# Altium footprint library Capacitor gigante.PcbLib: 1 footprints
Each footprint in its own frame and in the unit in brackets; x right, y up, seen from the top. Pads: shape width x height; smd on the part's side, far side on the other; paste and mask are expansions set on the pad; w line width, h text height; cw(c..) or ccw(c..) is an arc to the next point about the centre after c.
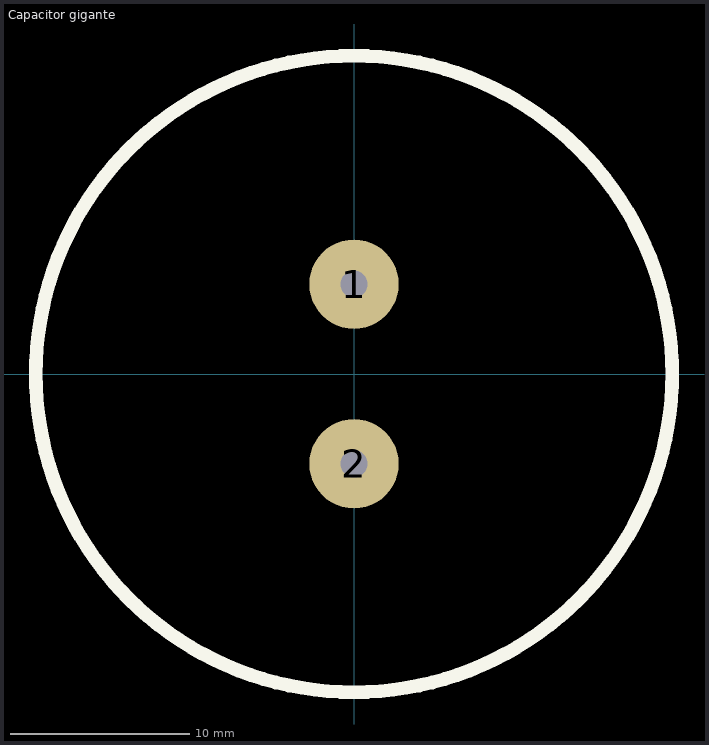
[diagram p0: the footprint, top view; thin cyan lines are the x and y axes]

## Capacitor gigante [mil]
pads (2):
  round 196 hole 60: 1(0,196.85) 2(0,-196.85)
Top Overlay:
  circle w30: c0,0 r697.5